# EAGLE library part PL177 (library wheat)
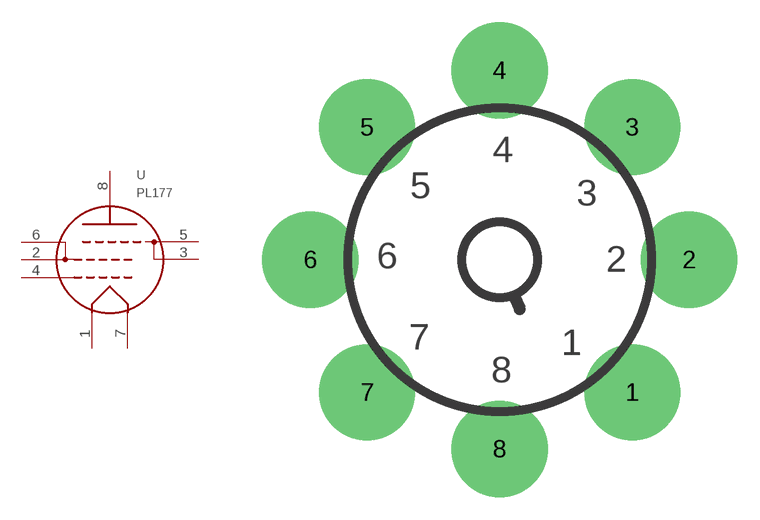
[diagram p226: symbol with the pads of OCTAL; footprint OCTAL]

Designator prefix -

## PL177  [OCTAL]
1  F1  pas
2  G2A  pas
3  G3A  pas
4  G1  pas
5  G3B  pas
6  G2B  pas
7  F2  pas
8  P  pas

## Footprint OCTAL (pad centres in mm)
OCTAL TUBE SOCKET, TOP MOUNT
drill 2.54 pad 6.452: 1 8.89,-8.89; 2 12.7,0; 3 8.89,8.89; 4 0,12.7; 5 -8.89,8.89; 6 -12.7,0; 7 -8.89,-8.89; 8 0,-12.7